# Altium integrated library Diodes.IntLib: 1 symbol
Pins are listed as number, name and electrical type; pins without a type are passive.

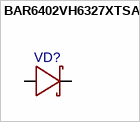
[diagram p0: symbol BAR6402VH6327XTSA1]

## BAR6402VH6327XTSA1
designator VD?
footprint INFENION SC79 (SODFL, 2-Leads, Body 0.80x1.60mm, IPC Medium Density)
pins: 1, 2